# Altium footprint library MT_Connector.PcbLib: 46 footprints (part 2 of 3)
Each footprint in its own frame and in the unit in brackets; x right, y up, seen from the top. Pads: shape width x height; smd on the part's side, far side on the other; paste and mask are expansions set on the pad; w line width, h text height; cw(c..) or ccw(c..) is an arc to the next point about the centre after c.
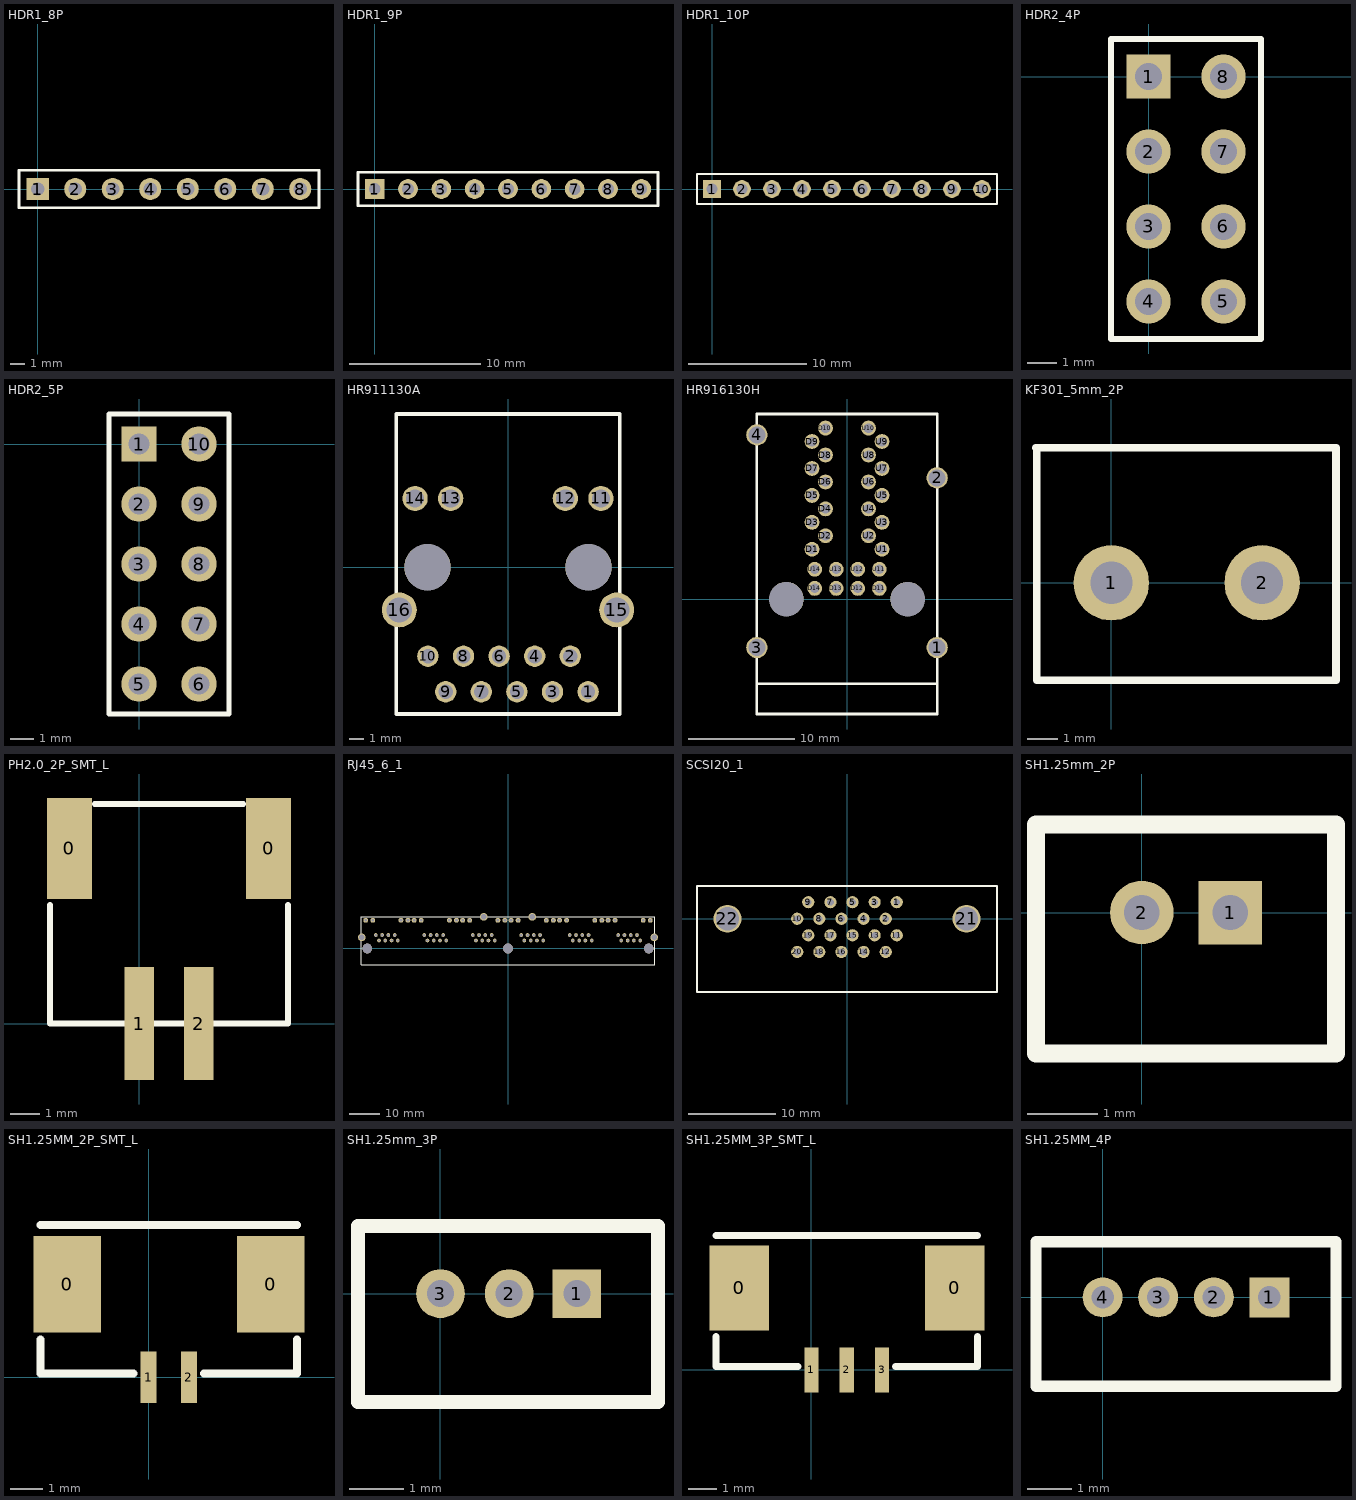
[diagram p1: the footprints below, top view; thin cyan lines are the x and y axes]

## HDR1_8P [mm]
pads (8):
  rect 1.5x1.5 hole 0.9: 1(0,0)
  round 1.5 hole 0.9: 2(2.54,0) 3(5.08,0) 4(7.62,0) 5(10.16,0) 6(12.7,0) 7(15.24,0) 8(17.78,0)
Top Overlay:
  lines w0.2: -1.27,-1.27 -1.27,1.27 19.05,1.27 19.05,-1.27 -1.27,-1.27

## HDR1_9P [mm]
pads (9):
  rect 1.5x1.5 hole 0.9: 1(0,0)
  round 1.5 hole 0.9: 2(2.54,0) 3(5.08,0) 4(7.62,0) 5(10.16,0) 6(12.7,0) 7(15.24,0) 8(17.78,0) 9(20.32,0)
Top Overlay:
  lines w0.2: -1.27,-1.27 21.59,-1.27 21.59,1.27 -1.27,1.27 -1.27,-1.27

## HDR1_10P [mm]
pads (10):
  rect 1.5x1.5 hole 0.9: 1(0,0)
  round 1.5 hole 0.9: 2(2.54,0) 3(5.08,0) 4(7.62,0) 5(10.16,0) 6(12.7,0) 7(15.24,0) 8(17.78,0) 9(20.32,0) 10(22.86,0)
Top Overlay:
  lines w0.2: -1.27,-1.27 -1.27,1.27 24.13,1.27 24.13,-1.27 -1.27,-1.27

## HDR2_4P [mm]
pads (8):
  rect 1.5x1.5 hole 0.9: 1(0,0)
  round 1.5 hole 0.9: 2(0,-2.54) 3(0,-5.08) 4(0,-7.62) 5(2.54,-7.62) 6(2.54,-5.08) 7(2.54,-2.54) 8(2.54,0)
Top Overlay:
  lines w0.2: -1.27,-8.89 3.81,-8.89 3.81,1.27 -1.27,1.27 -1.27,-8.89

## HDR2_5P [mm]
pads (10):
  rect 1.5x1.5 hole 0.9: 1(0,0)
  round 1.5 hole 0.9: 2(0,-2.54) 3(0,-5.08) 4(0,-7.62) 5(0,-10.16) 6(2.54,-10.16) 7(2.54,-7.62) 8(2.54,-5.08) 9(2.54,-2.54) 10(2.54,0)
Top Overlay:
  lines w0.2: -1.27,-11.43 -1.27,1.27 3.81,1.27 3.81,-11.43 -1.27,-11.43

## HR911130A [mil]
pads (18):
  round 60 hole 40: 1(225,-350) 2(175,-250) 3(125,-350) 4(75,-250) 5(25,-350) 6(-25,-250) 7(-75,-350) 8(-125,-250) 9(-175,-350) 10(-225,-250)
  round 70.87 hole 51.18: 11(260.82,192.91) 12(160.82,192.91) 13(-160.82,192.91) 14(-260.82,192.91)
  round 98 hole 70.87: 15(305.12,-120.08) 16(-305.12,-120.08)
  round 129.92 hole 129.92 unplated: ""(-225.99,0) ""(225.99,0)
Top Overlay:
  lines w10: -314,-412.4 314,-412.4 314,430.12 -314,430.12 -314,-412.4
Mechanical 10:
  text "17" at 205.99,0 h25
  text "18" at -245.99,0 h25
3D body "RJ45.stp": height 531.5, standoff -118.11, extent -312.6,-412.4 312.6,430.12

## HR916130H [mm]
pads (34):
  round 2 hole 1.6: 1(8.505,-4.57) 2(8.505,11.43) 3(-8.505,-4.57) 4(-8.505,15.49)
  round 1.4 hole 0.9: D1(-3.3,4.7) D2(-2.03,5.97) D3(-3.3,7.24) D4(-2.03,8.51) D5(-3.3,9.78) D6(-2.03,11.05) D7(-3.3,12.32) D8(-2.03,13.59) D9(-3.3,14.86) D10(-2.03,16.13) D11(3.045,1.01) D12(1.015,1.01) D13(-1.015,1.01) D14(-3.045,1.01) U1(3.3,4.7) U2(2.03,5.97) U3(3.3,7.24) U4(2.03,8.51) U5(3.3,9.78) U6(2.03,11.05) U7(3.3,12.32) U8(2.03,13.59) U9(3.3,14.86) U10(2.03,16.13) U11(3.045,2.81) U12(1.015,2.81) U13(-1.015,2.81) U14(-3.045,2.81)
  round 3.25 hole 3.25 unplated: ""(-5.715,0) ""(5.715,0)
Top Overlay:
  lines w0.254: -8.505,-8 0,-8 8.505,-8 ; -8.505,-10.84 -8.505,0 -8.505,17.46 8.505,17.46 8.505,0 8.505,-10.84 0,-10.84 -8.505,-10.84
3D body "HR916130.STEP": height 25.25, standoff -4.1, extent -8.545,-10.84 8.545,17.46

## KF301_5mm_2P [mm]
pads (2):
  round 2.5 hole 1.4: 1(0,0) 2(5,0)
Top Overlay:
  lines w0.254: -2.5,4.475 2.475,4.475 ; -2.475,4.475 -2.475,-3.225 2.5,-3.225 ; 2.45,4.475 7.425,4.475 ; 2.475,-3.225 7.45,-3.225 7.45,4.475

## PH2.0_2P_SMT_L [mm]
pads (4):
  rect 1.5x3.4 smd: 0(-2.35,5.9) 0(4.35,5.9)
  rect 1x3.8 smd: 1(0,0) 2(2,0)
Top Overlay:
  lines w0.2: -3,4 -3,0 5,0 5,4 ; -1.5,7.4 3.5,7.4
3D body "JST - PH - SMD (R) - 2Pin - 2.00mm.stp": height 5.38, standoff 0, extent -3.075,-0.927 5.072,7.328

## RJ45_6_1 [mm]
pads (76):
  round 1.2 hole 0.8: 1(42.945,2.54) 2(41.925,4.32) 3(40.905,2.54) 4(39.885,4.32) 5(38.865,2.54) 6(37.845,4.32) 7(36.825,2.54) 8(35.805,4.32) 13(27.195,2.54) 14(26.175,4.32) 15(25.155,2.54) 16(24.135,4.32) 17(23.115,2.54) 18(22.095,4.32) 19(21.075,2.54) 20(20.055,4.32) 25(11.445,2.54) 26(10.425,4.32) 27(9.405,2.54) 28(8.385,4.32) 29(7.365,2.54) 30(6.345,4.32) 31(5.325,2.54) 32(4.305,4.32) 37(-4.305,2.54) 38(-5.325,4.32) 39(-6.345,2.54) 40(-7.365,4.32) 41(-8.385,2.54) 42(-9.405,4.32) 43(-10.425,2.54) 44(-11.445,4.32) 49(-20.055,2.54) 50(-21.075,4.32) 51(-22.095,2.54) 52(-23.115,4.32) 53(-24.135,2.54) 54(-25.155,4.32) 55(-26.175,2.54) 56(-27.195,4.32) 61(-35.805,2.54) 62(-36.825,4.32) 63(-37.845,2.54) 64(-38.865,4.32) 65(-39.885,2.54) 66(-40.905,4.32) 67(-41.925,2.54) 68(-42.945,4.32)
  round 1.6 hole 0.9: 9(46.235,9.12) 10(43.945,9.12) 11(34.805,9.12) 12(32.515,9.12) 21(30.485,9.12) 22(28.195,9.12) 23(19.055,9.12) 24(16.765,9.12) 33(14.735,9.12) 34(12.445,9.12) 35(3.305,9.12) 36(1.015,9.12) 45(-1.015,9.12) 46(-3.305,9.12) 47(-12.445,9.12) 48(-14.735,9.12) 57(-16.765,9.12) 58(-19.055,9.12) 59(-28.195,9.12) 60(-30.485,9.12) 69(-32.515,9.12) 70(-34.805,9.12) 71(-43.945,9.12) 72(-46.235,9.12)
  round 2.489 hole 1.8: 73(47.5,3.56) 74(7.875,10.22) 75(-7.875,10.22) 76(-47.5,3.56)
via -45.725,0 diameter 3.2 hole 3.2
via 45.725,0 diameter 3.2 hole 3.2
via 0,0 diameter 3.2 hole 3.2
Top Overlay:
  lines w0.254: -47.625,-5.4 -47.625,10.2 0,10.2 47.625,10.2 47.625,-5.4 0,-5.4 -47.625,-5.4
3D body "RJ45x6.STEP": height 13.05, standoff -3.7, extent -47.625,-5.45 47.625,10.25

## SCSI20_1 [mm]
pads (22):
  round 1.4 hole 0.78: 1(5.715,1.905) 2(4.445,0) 3(3.175,1.905) 4(1.905,0) 5(0.635,1.905) 6(-0.635,0) 7(-1.905,1.905) 8(-3.175,0) 9(-4.445,1.905) 10(-5.715,0) 11(5.715,-1.905) 12(4.445,-3.81) 13(3.175,-1.905) 14(1.905,-3.81) 15(0.635,-1.905) 16(-0.635,-3.81) 17(-1.905,-1.905) 18(-3.175,-3.81) 19(-4.445,-1.905) 20(-5.715,-3.81)
  round 3.2 hole 2.67: 21(13.725,0) 22(-13.725,0)
Top Overlay:
  lines w0.254: -17.225,-8.405 17.225,-8.405 17.225,3.755 13.725,3.755 0,3.755 -13.725,3.755 -17.225,3.755 -17.225,-8.405
3D body "SCSI-20.STEP": height 9.26, standoff -3.34, extent -16.7,-13.825 16.7,2.875

## SH1.25mm_2P [mm]
pads (2):
  rect 0.9x0.9 hole 0.5: 1(1.25,0)
  round 0.9 hole 0.5: 2(0,0)
Top Overlay:
  lines w0.254: -1.5,-2 2.75,-2 2.75,0 2.75,1.25 -1.5,1.25 -1.5,0 -1.5,-2
3D body "JST connector 1x2 P1.25mm thru hole wafer A2.step": height 4.7, standoff -2.2, extent -1.475,-1.95 2.775,1.25

## SH1.25MM_2P_SMT_L [mm]
pads (4):
  rect 2.1x3 smd: 0(-2.541,2.899) 0(3.809,2.899)
  rect 0.5x1.6 smd: 1(0,0) 2(1.25,0)
Top Overlay:
  lines w0.254: -3.375,1.175 -3.375,0.125 -0.475,0.125 ; -3.375,4.75 4.625,4.75 ; 1.725,0.125 4.625,0.125 4.625,1.175
3D body "JST - GH - SMD (R) - 2Pin - 1.25mm.stp": height 3.53, standoff 0, extent -3.264,-0.644 4.564,4.702

## SH1.25mm_3P [mm]
pads (3):
  rect 0.9x0.9 hole 0.5: 1(2.52,0)
  round 0.9 hole 0.5: 2(1.27,0) 3(0,0)
Top Overlay:
  lines w0.254: -1.524,-2 -1.524,1.25 4.02,1.25 4.02,0 4.02,-2 -1.524,-2
3D body "JST connector 1x3  P1.25mm thru hole wafer A2.step": height 4.7, standoff -2.2, extent -1.5,-1.95 4,1.25

## SH1.25MM_3P_SMT_L [mm]
pads (5):
  rect 2.1x3 smd: 0(-2.541,2.899) 0(5.059,2.899)
  rect 0.5x1.6 smd: 1(0,0) 2(1.25,0) 3(2.5,0)
Top Overlay:
  lines w0.254: -3.375,1.175 -3.375,0.125 -0.475,0.125 ; -3.375,4.75 5.875,4.75 ; 2.975,0.125 5.875,0.125 5.875,1.175
3D body "JST - GH - SMD (R) - 3Pin - 1.25mm.stp": height 3.53, standoff 0, extent -3.289,-0.647 5.789,4.7

## SH1.25MM_4P [mm]
pads (4):
  rect 0.9x0.9 hole 0.5: 1(3.75,0)
  round 0.9 hole 0.5: 2(2.5,0) 3(1.25,0) 4(0,0)
Top Overlay:
  lines w0.254: -1.5,-2 -1.5,0 -1.5,1.25 5.25,1.25 5.25,0 5.25,-2 -1.5,-2
3D body "JST - GH - Thru (V) - 4Pin - 1.25mm.stp": height 4.22, standoff -2.26, extent -1.497,-1.914 5.25,1.414